# EAGLE library part 14A-56VA (library trafo-signal)
TRANSFORMER
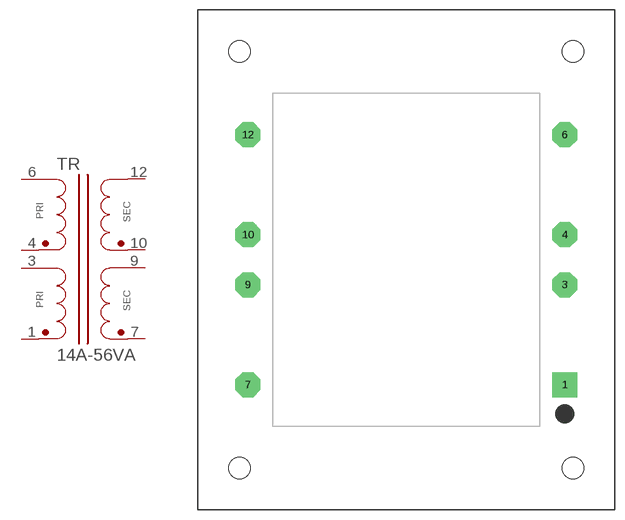
[diagram p10: symbol with the pads of 14A-56VA; footprint 14A-56VA]

Designator prefix TR

## 14A-56VA  [14A-56VA]
1  1  pas
3  3  pas
4  4  pas
6  6  pas
7  7  pas
9  9  pas
10  10  pas
12  12  pas

## Footprint 14A-56VA (pad centres in mm)
14A Series - 56VA
drill 1.676 pad 3.81 square: 1 24.13,-19.05
drill 1.676 pad 3.81 octagon: 3 24.13,-3.81; 4 24.13,3.81; 6 24.13,19.05; 7 -24.13,-19.05; 9 -24.13,-3.81; 10 -24.13,3.81; 12 -24.13,19.05
hole 3.264 at -25.4,31.75
hole 3.264 at -25.4,-31.75
hole 3.264 at 25.4,-31.75
hole 3.264 at 25.4,31.75